# Altium integrated library BC847AW.IntLib: 1 symbol
Pins are listed as number, name and electrical type; pins without a type are passive.

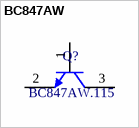
[diagram p0: symbol BC847AW]

## BC847AW
designator Q?  Model: BC847AW.115  (hidden comment: BC847AW)
General Purpose Transistor, NPN Silicon, 3-Pin SC70, Tape and Reel; Manufacturer: Nexperia; Polarity: NPN; ComponentLink1Description: Manufacturer URL; ComponentLink2Description: Datasheet; ComponentLink3URL: http://www.onsemi.cn/pub_link/Collateral/419-04.PDF; ComponentLink3Description: Package Specification; ComponentLink1URL: http://www.onsemi.com/; ComponentLink2URL: http://www.onsemi.cn/pub_link/Collateral/BC846AWT1-D.PDF; PackageReference: SC-70; HelpURL: https://www.digikey.com/product-detail/en/nexperia-usa-inc/BC847AW115/1727-6190-1-ND/2762688
footprint NEXPERIA-SC-70 (SC-70 SOT-323)
pins: 1 B, 2 E, 3 C